# Altium footprint library 最小系统板第二版.PcbLib: 3 footprints
Each footprint in its own frame and in the unit in brackets; x right, y up, seen from the top. Pads: shape width x height; smd on the part's side, far side on the other; paste and mask are expansions set on the pad; w line width, h text height; cw(c..) or ccw(c..) is an arc to the next point about the centre after c.
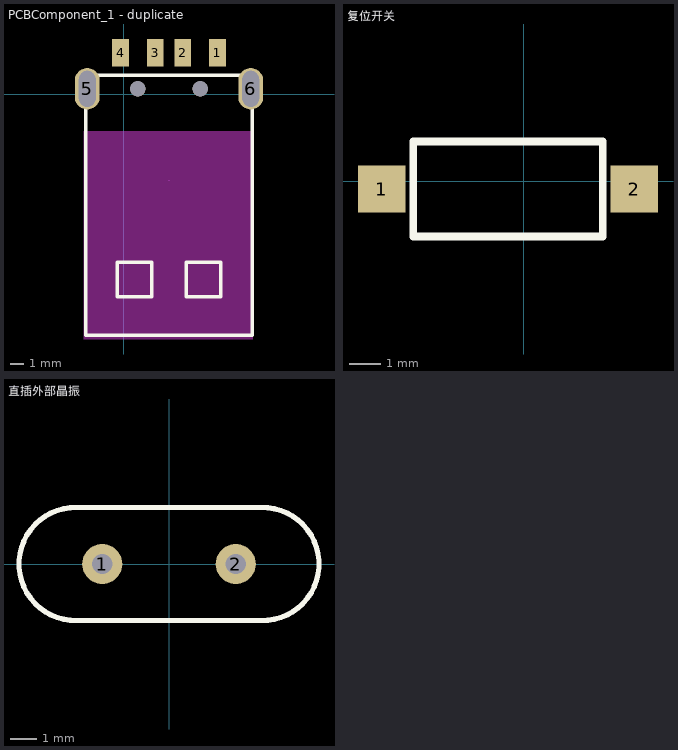
[diagram p0: the footprints below, top view; thin cyan lines are the x and y axes]

## PCBComponent_1 - duplicate [mm]
pads (8):
  rect 1.2x2 smd: 1(6.763,3.002) 2(4.263,3.002) 3(2.263,3.002) 4(-0.237,3.002)
  oval 1.8x3 hole 1.2 slot 2.6 at 90 deg: 5(-2.637,0.402) 6(9.163,0.402)
  round 1.1 hole 1.1 unplated: ""(1.013,0.402) ""(5.513,0.402)
Top Overlay:
  lines w0.254: -2.737,0.402 -2.737,-17.398 9.263,-17.398 9.263,0.402 ; -2.737,1.402 9.263,1.402 ; -0.487,-14.598 2.013,-14.598 2.013,-12.098 -0.487,-12.098 -0.487,-14.598 ; 4.513,-14.598 7.013,-14.598 7.013,-12.098 4.513,-12.098 4.513,-14.598
Keep-Out Layer:
  board cut-out: -2.884,-2.667 9.308,-2.667 9.308,-17.653 -2.884,-17.653
Mechanical 15:
  lines w0.003: 3.263,-6.181 3.263,-6.181

## 复位开关 [mil]
pads (2):
  rect 60x60 smd: 1(-180,-10) 2(140,-10)
Top Overlay:
  lines w10: -140,-70 100,-70 100,40 100,50 90,50 -140,50 -140,-70

## 直插外部晶振 [mil]
pads (2):
  round 60 hole 30: 1(-100,0) 2(100,0)
Top Overlay:
  lines w7.87: -137.8,-84.65 cw(c-140,0) -137.8,84.65 137.8,84.65 cw(c140,0) 137.8,-84.65 -137.8,-84.65